# Altium footprint library AMICC_A-SP1943B1GHR6C-C01-2T.PcbLib: 1 footprints
Each footprint in its own frame and in the unit in brackets; x right, y up, seen from the top. Pads: shape width x height; smd on the part's side, far side on the other; paste and mask are expansions set on the pad; w line width, h text height; cw(c..) or ccw(c..) is an arc to the next point about the centre after c.
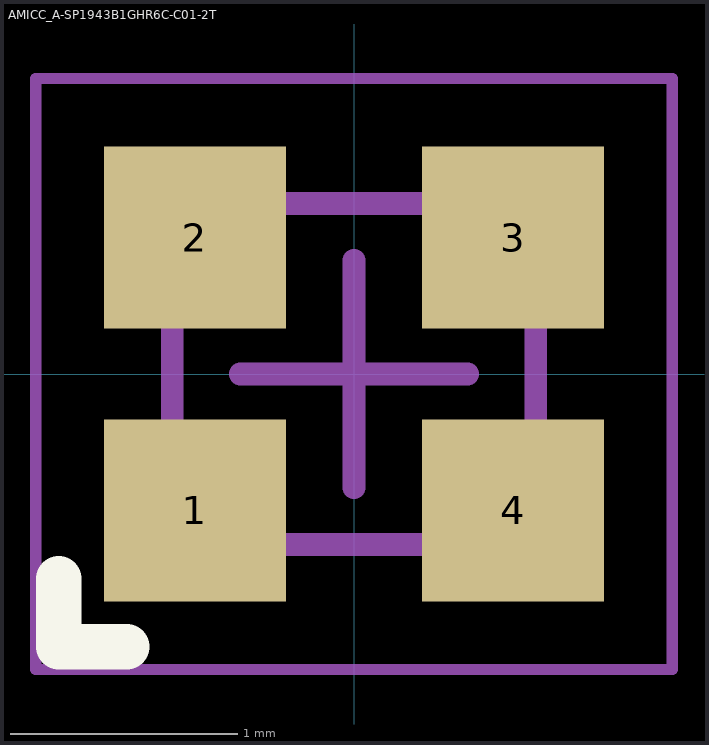
[diagram p0: the footprint, top view; thin cyan lines are the x and y axes]

## AMICC_A-SP1943B1GHR6C-C01-2T [mm]
pads (4):
  rect 0.8x0.8 smd mask+0.05: 1(-0.7,-0.6) 2(-0.7,0.6) 3(0.7,0.6) 4(0.7,-0.6)
Top Overlay:
  lines w0.2: -1.3,-0.9 -1.3,-1.2 -1,-1.2
Mechanical 13:
  circle w0.2: c-0.5,-0.45 r0.1
  lines w0.1: -0.8,-0.75 -0.8,0.75 0.8,0.75 0.8,-0.75 -0.8,-0.75
Mechanical 15:
  lines w0.05: -1.4,-1.3 -1.4,1.3 1.4,1.3 1.4,-1.3 -1.4,-1.3
  lines w0.1: -0.5,0 0.5,0 ; 0,-0.5 0,0.5
3D body: height 0.4, standoff 0, extent -0.8,-0.75 0.8,0.75